# Altium footprint library LEDs.PcbLib: 18 footprints (part 2 of 2)
Each footprint in its own frame and in the unit in brackets; x right, y up, seen from the top. Pads: shape width x height; smd on the part's side, far side on the other; paste and mask are expansions set on the pad; w line width, h text height; cw(c..) or ccw(c..) is an arc to the next point about the centre after c.
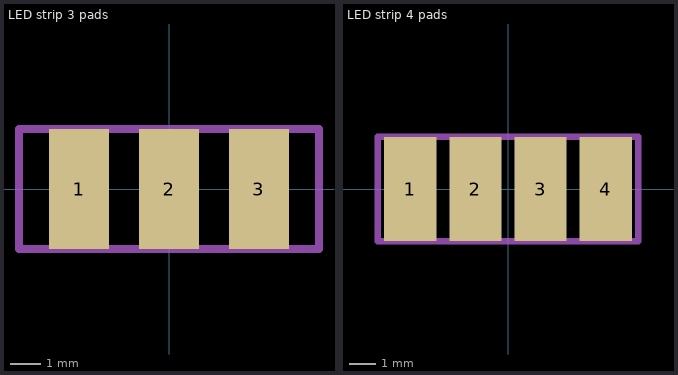
[diagram p1: the footprints below, top view; thin cyan lines are the x and y axes]

## LED strip 3 pads [mm]
pads (3):
  rect 2x4 smd: 1(-3,0) 2(0,0) 3(3,0)
Mechanical 1:
  lines w0.254: -5,-2 5,-2 5,2 -5,2 -5,-2

## LED strip 4 pads [mm]
pads (4):
  rect 2x4 smd: 1(-3.75,0) 2(-1.25,0) 3(1.25,0) 4(3.75,0)
Mechanical 1:
  lines w0.254: -5,-2 5,-2 5,2 -5,2 -5,-2